# Altium footprint library MyLibOLD.pcblib: 112 footprints (part 7 of 7)
Each footprint in its own frame and in the unit in brackets; x right, y up, seen from the top. Pads: shape width x height; smd on the part's side, far side on the other; paste and mask are expansions set on the pad; w line width, h text height; cw(c..) or ccw(c..) is an arc to the next point about the centre after c.
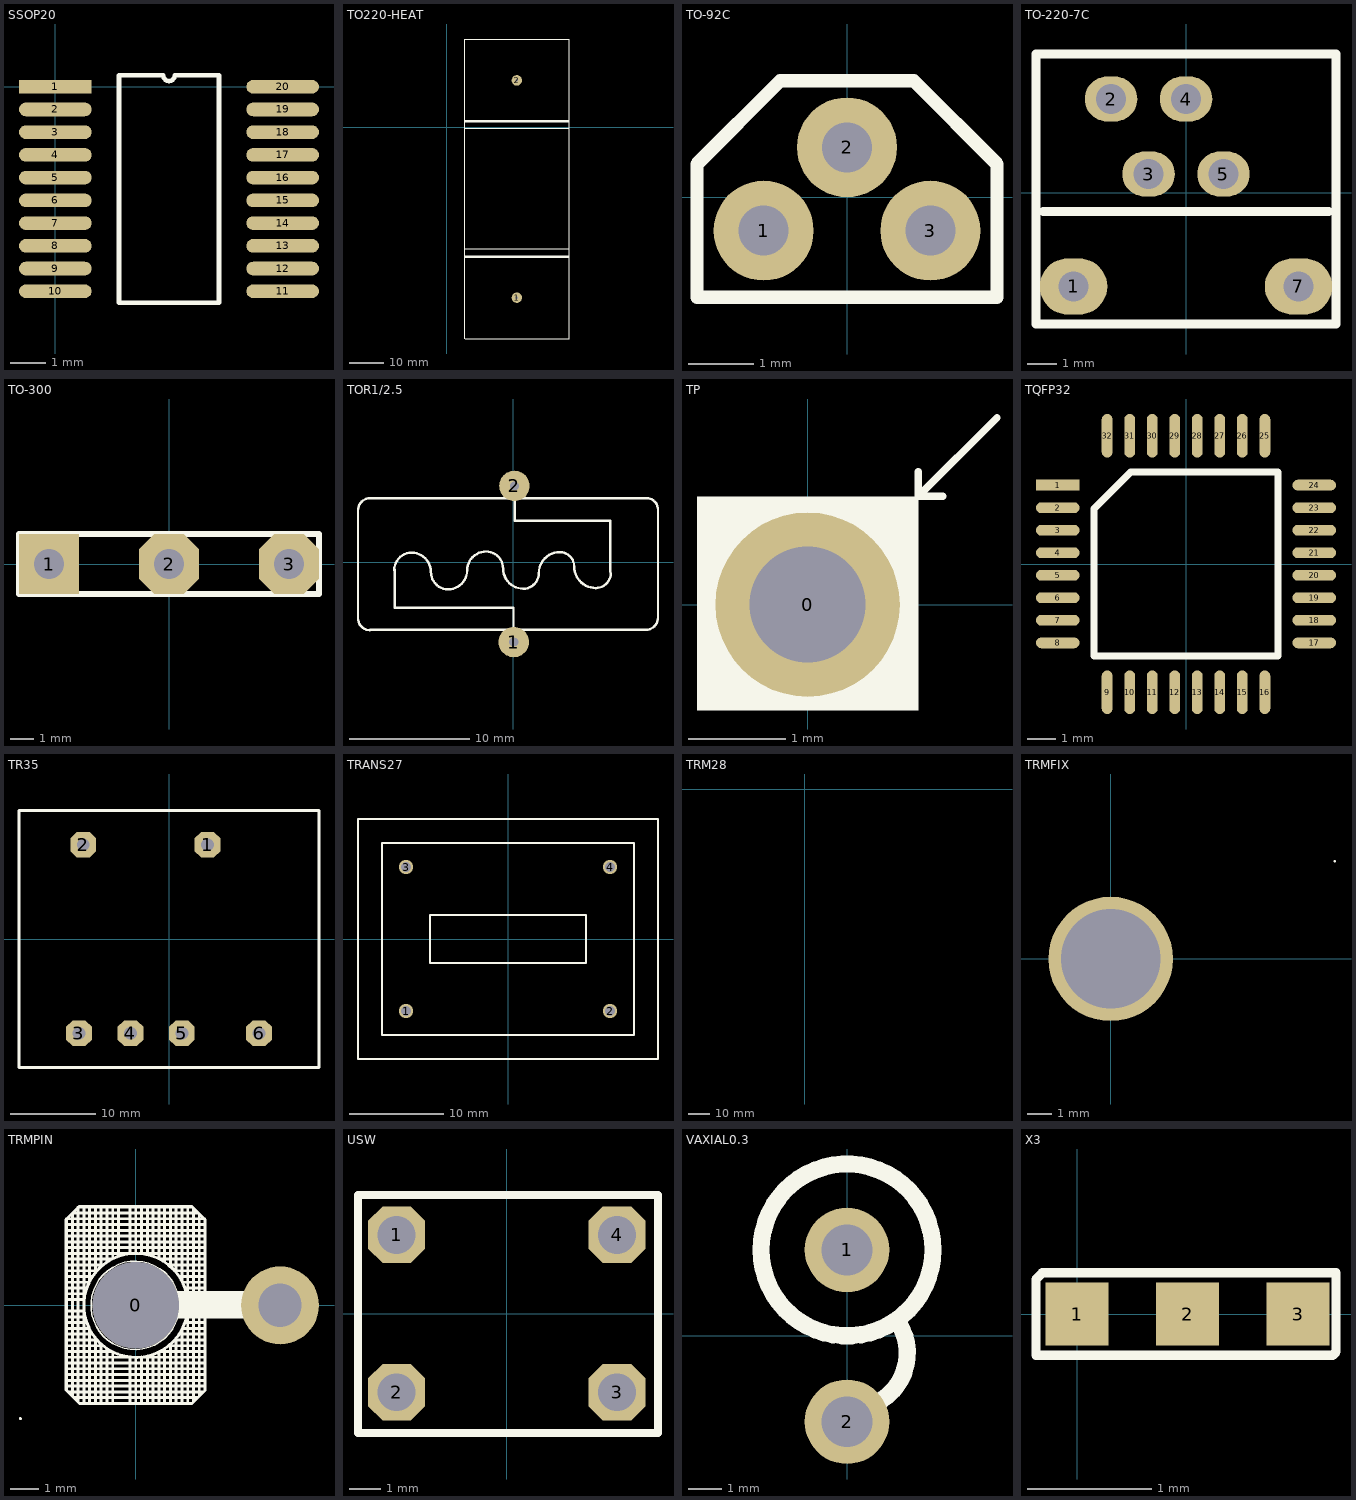
[diagram p6: the footprints below, top view; thin cyan lines are the x and y axes]

## SSOP20 [mil]
pads (20):
  rect 80x15 smd: 1(0,0)
  oval 80x15 smd: 2(0,-25) 3(0,-50) 4(0,-75) 5(0,-100) 6(0,-125) 7(0,-150) 8(0,-175) 9(0,-200) 10(0,-225) 11(250,-225) 12(250,-200) 13(250,-175) 14(250,-150) 15(250,-125) 16(250,-100) 17(250,-75) 18(250,-50) 19(250,-25) 20(250,0)
TopOverlay:
  lines w5: 70,-237.5 70,12.5 118.75,12.5 ccw(c125,12.5) 131.25,12.5 180,12.5 180,-237.5 70,-237.5

## TO220-HEAT [mm]
pads (2):
  round 3 hole 0.762: 1(20.142,-48.951) 2(20.142,13.406)
TopOverlay:
  lines w0.203: 5.207,-60.813 5.207,25.293 5.461,25.293 35.179,25.293 35.179,-60.813 ; 5.207,-34.905 35.179,-34.905 ; 5.207,-0.361 5.461,-0.361 35.179,-0.361 ; 5.283,-60.762 35.128,-60.762
  lines w0.61: 5.461,-37.191 34.925,-37.191 ; 5.461,1.671 34.925,1.671

## TO-92C [mil]
pads (3):
  round 60 hole 30: 1(-50,-20) 2(0,30) 3(50,-20)
TopOverlay:
  lines w8: -90,-60 90,-60 90,20 40,70 -40,70 -90,20 -90,-60

## TO-220-7C [mil]
pads (6):
  oval 90x75 hole 39.37: 1(-150,-125) 7(150,-125)
  oval 70x60 hole 39.37: 2(-100,125) 3(-50,25) 4(0,125) 5(50,25)
TopOverlay:
  lines w12: -190,-25 190,-25 ; -200,-175 200,-175 200,185 -200,185 -200,-175

## TO-300 [mil]
pads (3):
  rect 100x100 hole 50: 1(-200,0)
  oct 100x100 hole 50: 2(0,0) 3(200,0)
TopOverlay:
  lines w10: -250,-50 -250,50 250,50 250,-50 -250,-50

## TOR1/2.5 [mil]
pads (2):
  round 100 hole 30: 1(1,-261) 2(3,251)
TopOverlay:
  lines w8: -510,164 -510,171 ; -471,-222 cw(c-471,-183) -510,-183 -510,171 ; -470,-221 434,-221 ccw(c434,-181) 474,-181 474,173 ccw(c436,173) 436,211 -432,211 ; -433,211 -470,211 ccw(c-470,171) -510,171 ; -391,-25 cw(c-334,-25) -334,32 cw(c-334,-31) -271,-31 ccw(c-214,-31) -214,-88 ccw(c-214,-26) -152,-26 cw(c-90,-26) -90,36 cw(c-90,-20) -34,-20 ccw(c32,-20) 32,-86 ccw(c32,-35) 83,-35 cw(c152,-35) 152,34 cw(c152,-13) 199,-13 ccw(c270,-13) 270,-84 ccw(c270,-35) 319,-35 ; -390,-23 -390,-149 0,-149 0,-253 ; 4,217 4,137 317,137 317,-30

## TP [mm]
pads (1):
  round 1.905 hole 1.2: 0(0,0)
TopOverlay:
  rectangle: -1.143,-1.092 1.143,1.118
  lines w0.076: 1.143,1.372 1.143,1.118 ; 1.397,1.118 1.143,1.118 ; 1.956,1.93 1.143,1.118

## TQFP32 [mil]
pads (32):
  rect 60x15 smd: 1(-176.5,108.5)
  oval 60x15 smd: 2(-176.5,77.5) 3(-176.5,46.5) 4(-176.5,15.5) 5(-176.5,-15.5) 6(-176.5,-46.5) 7(-176.5,-77.5) 8(-176.5,-108.5) 17(176.5,-108.5) 18(176.5,-77.5) 19(176.5,-46.5) 20(176.5,-15.5) 21(176.5,15.5) 22(176.5,46.5) 23(176.5,77.5) 24(176.5,108.5)
  oval 15x60 smd: 9(-108.5,-176.5) 10(-77.5,-176.5) 11(-46.5,-176.5) 12(-15.5,-176.5) 13(15.5,-176.5) 14(46.5,-176.5) 15(77.5,-176.5) 16(108.5,-176.5) 25(108.5,176.5) 26(77.5,176.5) 27(46.5,176.5) 28(15.5,176.5) 29(-15.5,176.5) 30(-46.5,176.5) 31(-77.5,176.5) 32(-108.5,176.5)
TopOverlay:
  lines w10: -126.5,-126.5 -126.5,76.5 -76.5,126.5 126.5,126.5 126.5,-126.5 -126.5,-126.5

## TR35 [mm]
pads (6):
  oct 3x3 hole 1.5: 1(4.5,11) 2(-10,11) 3(-10.5,-11) 4(-4.5,-11) 5(1.5,-11) 6(10.5,-11)
TopOverlay:
  lines w0.381: -17.5,-15 -17.5,15 17.5,15 17.5,-15 -17.5,-15

## TRANS27 [mil]
pads (4):
  round 60 hole 40: 1(-425,-300) 2(425,-300) 3(-425,300) 4(425,300)
TopOverlay:
  lines w7.87: -625,-500 -625,500 625,500 625,-500 -625,-500 ; -525,-400 525,-400 525,400 -525,400 -525,-400 ; -325,-100 325,-100 325,100 -325,100 -325,-100

## TRM28 [mil]
BottomOverlay:
  rectangle: 39.95,-3139.87 1496,-3084
  rectangle: 39.91,-3506.72 1495.95,-3450.86
  rectangle: 39.91,-3871.72 1495.95,-3815.86
  rectangle: 39.91,-4238.72 1495.95,-4182.86
  rectangle: 39.91,-4603.72 1495.95,-4547.86
  rectangle: 39.91,-4969.72 1495.95,-4913.86
  rectangle: 40.95,-2774.87 1497,-2719
  rectangle: 39.91,-2041.72 1495.95,-1985.86
  rectangle: 39.91,-1674.72 1495.95,-1618.86
  rectangle: 39.95,-1309.68 1496,-1253.81
  rectangle: 40.95,-945.87 1497,-890
  rectangle: 42,-574 1497.49,-518.7
  rectangle: 0,-5277.14 39,-209.65
  rectangle: 1500,-5277 1535.43,-209.65
  rectangle: 0,-18 1535.43,0
  rectangle: 0,-209.65 68,-9
  rectangle: 1482,-203 1535.43,0
  rectangle: 40.91,-2408.72 1496.95,-2352.86
  lines w3.94: 0,-5277.14 1535.43,-5277.14 ; 0,-4967.14 1535.43,-4967.14 ; 0,-4913.14 1535.43,-4913.14 ; 0,-4601.14 1535.43,-4601.14 ; 0,-4547.14 1535.43,-4547.14 ; 0,-4237.14 1535.43,-4237.14 ; 0,-4182.14 1535.43,-4182.14 ; 0,-3872.14 1535.43,-3872.14 ; 0,-3816.14 1535.43,-3816.14 ; 0,-3507.14 1535.43,-3507.14 ; 0,-3450.14 1535.43,-3450.14 ; 0,-3142.14 1535.43,-3142.14 ; 0,-3084.14 1535.43,-3084.14 ; 0,-2775.14 1535.43,-2775.14 ; 0,-2718.14 1535.43,-2718.14 ; 0,-2409.14 1535.43,-2409.14 ; 0,-2039.14 1535.43,-2039.14 ; 0,-1985.14 1535.43,-1985.14 ; 0,-1674.14 1535.43,-1674.14 ; 0,-1618.14 1535.43,-1618.14 ; 0,-1252.95 1535.43,-1252.95 ; 0,-945.87 1535.43,-945.87 ; 0,-889.14 1535.43,-889.14 ; 0,-575.14 1535.43,-575.14 ; 0,-518.7 1535.43,-518.7 ; 0,-209.65 1535.43,-209.65 ; 40.95,-5276.92 40.95,-518.72 40.95,-209.87 ; 1497.49,-5276.39 1497.49,-208.93 ; 0,-5470.24 1535.39,-5470.24 1535.43,-5470.2 1535.43,0 0,0 0,-5470.24
  lines w5: 40.95,-1310 1497.49,-1310

## TRMFIX [mm]
pads (2):
  round 0.1 on Top Overlay: 3(9,3.925)
  round 5 hole 4: ""(0,0)
TopOverlay:
  lines w0.203: -0.605,2.024 ccw(c-0.025,0) -0.427,-2.066 ; -0.6,2.025 -0.5,2.025 -0.5,-2.05 ; 0.23,-2.074 ccw(c-0.025,0) 0.23,2.074 ; 0.275,-2.05 0.275,2.05 0.325,2.05
BottomOverlay:
  lines w0.05: 5,-0.5 5.525,-0.5 5.75,-0.275 5.75,0.25 5.5,0.5 5,0.5 ; 8.175,3.75 8.125,3.8 8,3.925 ; 8.175,4.1 8.125,4.05 8,3.925 ; 9,3.925 8,3.925 ; -3,-2.5 5,-2.5 5,2.5 -3,2.5 -3,-2.5

## TRMPIN [mm]
pads (3):
  round 3 hole 3: 0(0,0)
  round 0.1 on Top Overlay: 2(-4,-3.925)
  round 2.7 hole 1.5: ""(5,0)
TopOverlay:
  circle w0.05: c-0.025,0 r1.532
  circle w0.1: c0,0 r1.804
  rectangle: 1.025,-0.45 4.55,0.5
  lines w0.1: -2.425,-2.799 2.4,-2.799 ; -2.425,-2.599 2.4,-2.599 ; -2.425,-2.399 2.4,-2.399 ; -2.425,-2.199 2.4,-2.199 ; -2.425,-1.999 2.4,-1.999 ; -2.425,-1.799 -0.132,-1.799 ; -2.425,-1.599 -0.835,-1.599 ; -2.425,-1.399 -1.139,-1.399 ; -2.425,-1.199 -1.348,-1.199 ; -2.425,-0.999 -1.502,-0.999 ; -2.425,-0.799 -1.617,-0.799 ; -2.425,-0.599 -1.702,-0.599 ; -2.425,-0.399 -1.759,-0.399 ; -2.425,-0.199 -1.793,-0.199 ; -2.425,0.201 -1.793,0.201 ; -2.425,0.401 -1.759,0.401 ; -2.425,0.601 -1.701,0.601 ; -2.425,0.801 -1.617,0.801 ; -2.425,1.001 -1.501,1.001 ; -2.425,1.201 -1.346,1.201 ; -2.425,1.401 -1.137,1.401 ; -2.425,1.601 -0.832,1.601 ; -2.425,1.801 -0.106,1.801 ; -2.425,2.001 2.4,2.001 ; -2.425,2.201 2.4,2.201 ; -2.425,2.401 2.4,2.401 ; -2.425,2.601 2.4,2.601 ; -2.425,2.801 2.4,2.801 ; -2.401,-2.949 -2.401,2.999 ; -2.399,3.001 2.374,3.001 ; -2.351,-2.999 2.351,-2.999 ; -2.201,-3.149 -2.201,3.199 ; -2.199,3.201 2.174,3.201 ; -2.151,-3.199 2.151,-3.199 ; -2.001,-3.349 -2.001,3.399 ; -1.999,3.401 1.974,3.401 ; -1.951,-3.399 1.951,-3.399 ; -1.801,-3.4 -1.801,-0.109 ; -1.801,0.109 -1.801,3.425 ; -1.601,-3.4 -1.601,-0.832 ; -1.601,0.832 -1.601,3.425 ; -1.401,-3.4 -1.401,-1.137 ; -1.401,1.137 -1.401,3.425 ; -1.201,-3.4 -1.201,-1.346 ; -1.201,1.346 -1.201,3.425 ; -1.001,-3.4 -1.001,-1.501 ; -1.001,1.501 -1.001,3.425 ; -0.801,-3.4 -0.801,-1.617 ; -0.801,1.617 -0.801,3.425 ; -0.601,1.701 -0.601,3.425 ; -0.201,-3.4 -0.201,-1.793 ; -0.201,1.793 -0.201,3.425 ; -0.001,-3.4 -0.001,-1.804 ; -0.001,1.804 -0.001,3.425 ; 0.106,1.801 2.4,1.801 ; 0.132,-1.799 2.4,-1.799 ; 0.199,-3.4 0.199,-1.793 ; 0.199,1.793 0.199,3.425 ; 0.399,-3.4 0.399,-1.759 ; 0.399,1.759 0.399,3.425 ; 0.599,-3.4 0.599,-1.702 ; 0.599,1.702 0.599,3.425 ; 0.799,-3.4 0.799,-1.617 ; 0.799,1.617 0.799,3.425 ; 0.832,1.601 2.4,1.601 ; 0.835,-1.599 2.4,-1.599 ; 0.999,-3.4 0.999,-1.502 ; 0.999,1.502 0.999,3.425 ; 1.137,1.401 2.4,1.401 ; 1.139,-1.399 2.4,-1.399 ; 1.199,-3.4 1.199,-1.348 ; 1.199,1.348 1.199,3.425 ; 1.346,1.201 2.4,1.201 ; 1.348,-1.199 2.4,-1.199 ; 1.399,-3.4 1.399,-1.139 ; 1.399,1.139 1.399,3.425 ; 1.501,1.001 2.4,1.001 ; 1.502,-0.999 2.4,-0.999 ; 1.599,-3.4 1.599,-0.835 ; 1.599,0.835 1.599,3.425 ; 1.616,0.801 2.4,0.801 ; 1.617,-0.799 2.4,-0.799 ; 1.701,0.601 2.4,0.601 ; 1.702,-0.599 2.4,-0.599 ; 1.759,-0.399 2.4,-0.399 ; 1.759,0.401 2.4,0.401 ; 1.793,-0.199 2.4,-0.199 ; 1.793,0.201 2.4,0.201 ; 1.799,-3.4 1.799,-0.13 ; 1.799,0.13 1.799,3.425 ; 1.999,-3.351 1.999,3.376 ; 2.199,-3.151 2.199,3.176 ; 2.399,-2.951 2.399,2.976 ; -2.425,-2.925 -2.425,2.975 -1.975,3.425 1.95,3.425 2.4,2.975 2.4,-2.95 1.95,-3.4 -1.95,-3.4 -2.425,-2.925
BottomOverlay:
  lines w0.05: -4,-3.925 -3,-3.925 ; -3.175,-4.1 -3.125,-4.05 -3,-3.925 ; -3.175,-3.75 -3.125,-3.8 -3,-3.925 ; -2.425,0 -1.825,0 ; -0.575,-3.4 -0.575,-1.8 ; -0.4,-3.375 -0.4,-1.8 ; -0.4,1.825 -0.4,3.375 ; 1.825,0 2.4,0 ; -2.5,-3 -2.5,3 -2,3.5 2,3.5 2.5,3 2.5,-3 2,-3.5 -2,-3.5 -2.5,-3

## USW [mm]
pads (4):
  oct 1.8x1.8 hole 1.2: 1(-3.5,2.5) 2(-3.5,-2.5) 3(3.5,-2.5) 4(3.5,2.5)
TopOverlay:
  lines w0.254: -4.724,3.099 -4.724,3.759 4.801,3.759 4.801,-3.785 -4.724,-3.785 -4.724,3.581

## VAXIAL0.3 [mm]
pads (2):
  round 2.5 hole 1.5: 1(0,2.54) 2(0,-2.54)
TopOverlay:
  circle w0.508: c0,2.54 r2.54
  lines w0.508: 1.016,-1.905 ccw(c0.127,-0.508) 1.524,0.381

## X3 [mil]
pads (3):
  rect 20x20 smd: 1(0,0) 2(35,0) 3(70,0)
TopOverlay:
  lines w3: -13,-13 -13,11 -11,13 82,13 82,-12 81,-13 -13,-13